# Altium footprint library PCB - CAPACITOR - FILM - ECWFE2W334J.PCBLIB: 1 footprints
Each footprint in its own frame and in the unit in brackets; x right, y up, seen from the top. Pads: shape width x height; smd on the part's side, far side on the other; paste and mask are expansions set on the pad; w line width, h text height; cw(c..) or ccw(c..) is an arc to the next point about the centre after c.
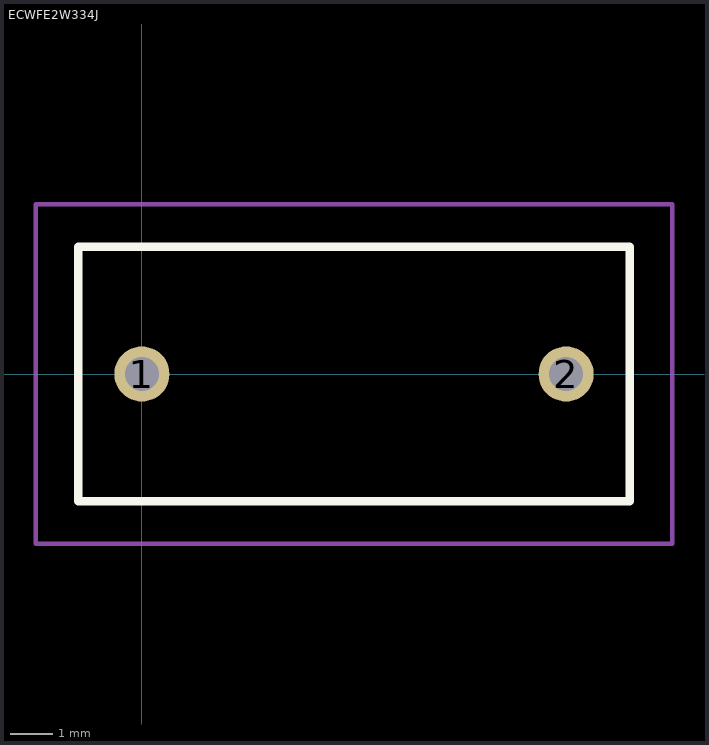
[diagram p0: the footprint, top view; thin cyan lines are the x and y axes]

## ECWFE2W334J [mm]
pads (2):
  round 1.3 hole 0.8: 1(0,0) 2(10,0)
Top Overlay:
  lines w0.2: -1.5,-3 -1.5,3 11.5,3 11.5,-3 -1.5,-3
Top Value (Mech13):
  lines w0.1: -1.5,-3 -1.5,3 11.5,3 11.5,-3 -1.5,-3
Mechanical 15:
  lines w0.1: -2.5,-4 -2.5,4 12.5,4 12.5,-4 -2.5,-4
3D body "ECW-FE2W334J.stp": height 12.6, standoff -5, extent -1.5,-3 11.5,3